# Altium schematic symbol library Coacsial.SchLib: 4 symbols
Pins are listed as number, name and electrical type; pins without a type are passive.

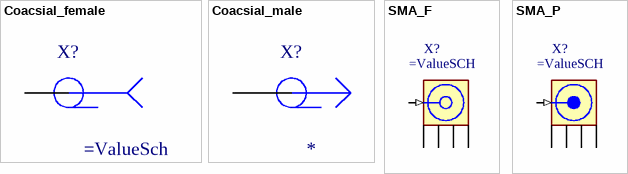
[diagram p0: symbols Coacsial_female to SMA_P]

## Coacsial_female
designator X?
pins: central, ekran

## Coacsial_male
designator X?
ValueSch: *; Marking: *
pins: central Central "Центральный электрод", ekran

## SMA_F
designator X?
RF Coaxial PCB Connector, MCX; Thru-Hole, Right-Angle Mount Socket, Blunt Post Terminal, 50 Ohm Impedance
pins: 1 Signal (in) "Signal Pin", SHLD GND (power), SHLD GND (power), SHLD GND (power), SHLD GND (power)

## SMA_P
designator X?
RF Coaxial PCB Connector, MCX; Thru-Hole, Right-Angle Mount Socket, Blunt Post Terminal, 50 Ohm Impedance
pins: 1 Signal (in) "Signal Pin", SHLD GND (power), SHLD GND (power), SHLD GND (power), SHLD GND (power)